# Altium footprint library Footprint_Inductor.PcbLib: 5 footprints
Each footprint in its own frame and in the unit in brackets; x right, y up, seen from the top. Pads: shape width x height; smd on the part's side, far side on the other; paste and mask are expansions set on the pad; w line width, h text height; cw(c..) or ccw(c..) is an arc to the next point about the centre after c.
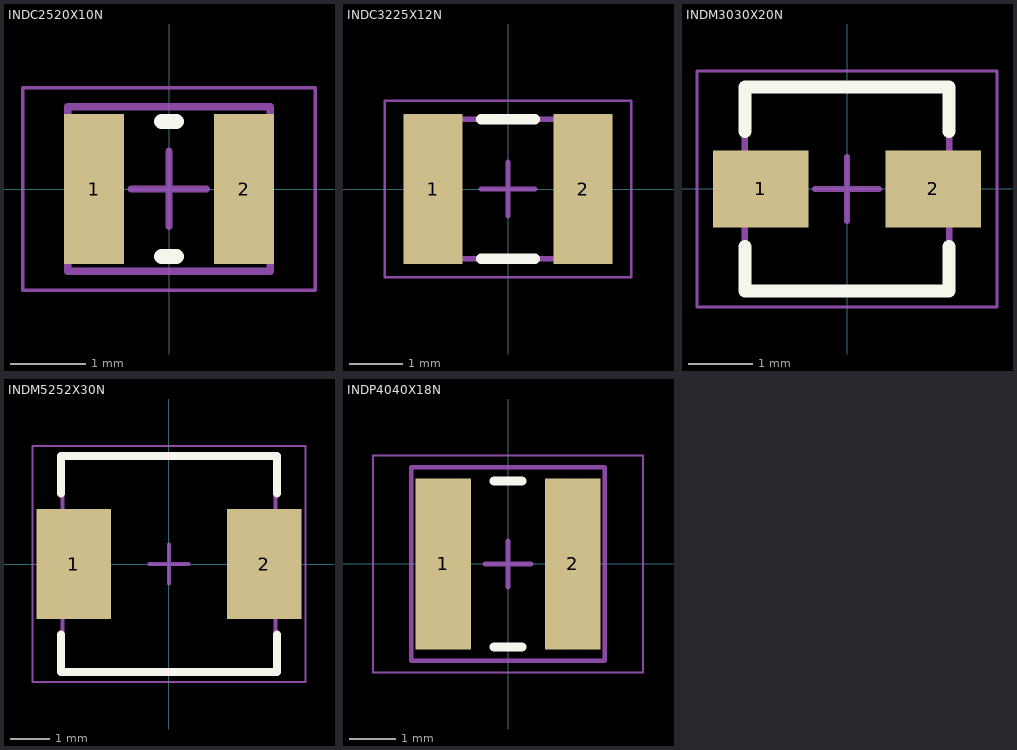
[diagram p0: the footprints below, top view; thin cyan lines are the x and y axes]

## INDC2520X10N [mm] "Chip Inductor, 2-Leads, Body 2.50x2.00mm, IPC Medium Density"
height 1
pads (2):
  rect 0.8x2 smd: 1(-1,0) 2(1,0)
Top Overlay:
  lines w0.2: -0.1,-0.9 0.1,-0.9 ; -0.1,0.9 0.1,0.9
Top Assembly:
  lines w0.1: -1.35,-1.1 -1.35,1.1 1.35,1.1 1.35,-1.1 -1.35,-1.1
  text ".Designator" at -7.747,-1.27 h0.76
Top Courtyard:
  lines w0.05: -1.95,-1.35 -1.95,1.35 1.95,1.35 1.95,-1.35 -1.95,-1.35
  lines w0.1: -0.5,0 0.5,0 ; 0,-0.5 0,0.5
3D body "INDC2520X10N.step": height 1, standoff 0, extent -1.35,-1.1 1.35,1.1

## INDC3225X12N [mm] "Chip Inductor, 2-Leads, Body 3.20x2.50mm, IPC Medium Density"
height 1.2
pads (2):
  rect 1.1x2.8 smd: 1(-1.4,0) 2(1.4,0)
Top Overlay:
  lines w0.2: -0.5,-1.3 0.5,-1.3 ; -0.5,1.3 0.5,1.3
Top Assembly:
  lines w0.1: -1.65,-1.3 -1.65,1.3 1.65,1.3 1.65,-1.3 -1.65,-1.3
  text ".Designator" at -7.747,-1.27 h0.76
Top Courtyard:
  lines w0.05: -2.3,-1.65 -2.3,1.65 2.3,1.65 2.3,-1.65 -2.3,-1.65
  lines w0.1: -0.5,0 0.5,0 ; 0,-0.5 0,0.5
3D body "INDC3225X12N.step": height 1.2, standoff 0, extent -1.65,-1.3 1.65,1.3

## INDM3030X20N [mm] "Molded Inductor, 2-Leads, Body 3.00x3.00mm, IPC Medium Density"
height 2
pads (2):
  rect 1.5x1.2 smd: 1(-1.35,0) 2(1.35,0)
Top Overlay:
  lines w0.2: -1.6,-0.9 -1.6,-1.6 1.6,-1.6 1.6,-0.9 ; -1.6,0.9 -1.6,1.6 1.6,1.6 1.6,0.9
Top Assembly:
  lines w0.1: -1.6,-1.6 -1.6,1.6 1.6,1.6 1.6,-1.6 -1.6,-1.6
  text ".Designator" at -7.747,-1.27 h0.76
Top Courtyard:
  lines w0.05: -2.35,-1.85 -2.35,1.85 2.35,1.85 2.35,-1.85 -2.35,-1.85
  lines w0.1: -0.5,0 0.5,0 ; 0,-0.5 0,0.5
3D body "INDM3030X20N.step": height 2, standoff 0, extent -1.82,-1.6 1.82,1.6

## INDM5252X30N [mm] "Molded Inductor, 2-Leads, Body 5.18x5.18mm, IPC Medium Density"
height 3
pads (2):
  rect 1.905x2.79 smd: 1(-2.425,0) 2(2.426,0)
Top Overlay:
  lines w0.2: -2.75,-1.795 -2.75,-2.75 2.75,-2.75 2.75,-1.795 ; -2.75,1.795 -2.75,2.75 2.75,2.75 2.75,1.795
Top Assembly:
  lines w0.1: -2.715,-2.715 2.715,-2.715 2.715,2.715 -2.715,2.715 -2.715,-2.715
  text ".Designator" at -7.75,-1.27 h0.76
Top Courtyard:
  lines w0.05: -3.475,-3 3.475,-3 3.475,3 -3.475,3 -3.475,-3
  lines w0.1: -0.5,0 0.5,0 ; 0,-0.5 0,0.5
3D body "INDM5252X30N.step": height 3, standoff 0, extent -2.935,-2.715 2.935,2.715

## INDP4040X18N [mm] "Precision Wire Wound Inductor, 2-Leads, Body 4.00x4.00mm, IPC Medium Density"
height 1.8
pads (2):
  rect 1.2x3.7 smd: 1(-1.4,0) 2(1.4,0)
Top Overlay:
  lines w0.2: -0.3,-1.8 0.3,-1.8 ; -0.3,1.8 0.3,1.8
Top Assembly:
  lines w0.1: -2.1,-2.1 2.1,-2.1 2.1,2.1 -2.1,2.1 -2.1,-2.1
  text ".Designator" at -7.75,-1.27 h0.76
Top Courtyard:
  lines w0.05: -2.925,-2.35 2.925,-2.35 2.925,2.35 -2.925,2.35 -2.925,-2.35
  lines w0.1: -0.5,0 0.5,0 ; 0,-0.5 0,0.5
3D body "User Library-NRS4018_3.step": height 1.8, standoff 0, extent -2.1,-2.1 2.1,2.1